# EAGLE library part LPC11C* (library lpc11xx)
The LPC11C12/C14 are an ARM Cortex-M0 based, low-cost 32-bit MCU family, designed for 8/16-bit microcontroller applications, offering performance, low power, simple instruction set and memory addressing together with reduced code size compared to existing 8/16-bit architectures. The LPC11C12/C14 operate at CPU frequencies of up to 50 MHz. The peripheral complement of the LPC11C12/C14 includes 16/32 kB of flash memory, 8 kB of data memory, one C_CAN controller, one Fast-mode Plus I2C-bus interface, one RS-485/EIA-485 UART, two SPI interfaces with SSP features, four general purpose counter/timers, a 10-bit ADC, and 40 general purpose I/O pins. On-chip C_CAN drivers and flash In-System Programming tools via C_CAN are included.
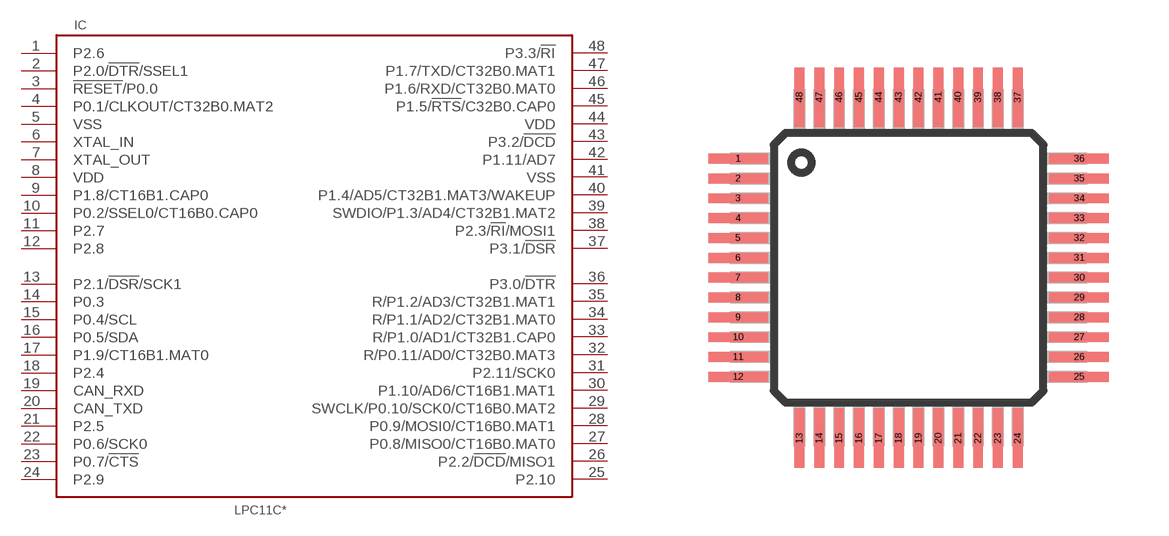
[diagram p0: symbol with the pads of LQFP48; footprint LQFP48]

Designator prefix IC

## LPC11C12FBD48, LPC11C14FBD48  [LQFP48]
1  P2.6
2  P2.0/!DTR!/SSEL1
3  !RESET!/P0.0
4  P0.1/CLKOUT/CT32B0.MAT2
5  VSS  pwr
6  XTAL_IN  in
7  XTAL_OUT  out
8  VDD  pwr
9  P1.8/CT16B1.CAP0
10  P0.2/SSEL0/CT16B0.CAP0
11  P2.7
12  P2.8
13  P2.1/!DSR!/SCK1
14  P0.3
15  P0.4/SCL
16  P0.5/SDA
17  P1.9/CT16B1.MAT0
18  P2.4
19  CAN_RXD  in
20  CAN_TXD  out
21  P2.5
22  P0.6/SCK0
23  P0.7/!CTS
24  P2.9
25  P2.10
26  P2.2/!DCD!/MISO1
27  P0.8/MISO0/CT16B0.MAT0
28  P0.9/MOSI0/CT16B0.MAT1
29  SWCLK/P0.10/SCK0/CT16B0.MAT2
30  P1.10/AD6/CT16B1.MAT1
31  P2.11/SCK0
32  R/P0.11/AD0/CT32B0.MAT3
33  R/P1.0/AD1/CT32B1.CAP0
34  R/P1.1/AD2/CT32B1.MAT0
35  R/P1.2/AD3/CT32B1.MAT1
36  P3.0/!DTR
37  P3.1/!DSR
38  P2.3/!RI!/MOSI1
39  SWDIO/P1.3/AD4/CT32B1.MAT2
40  P1.4/AD5/CT32B1.MAT3/WAKEUP
41  VSS  pwr
42  P1.11/AD7
43  P3.2/!DCD
44  VDD  pwr
45  P1.5/!RTS!/C32B0.CAP0
46  P1.6/RXD/CT32B0.MAT0
47  P1.7/TXD/CT32B0.MAT1
48  P3.3/!RI

## Footprint LQFP48 (pad centres in mm)
smd 1.5 x 0.25: 1 -4.3,2.75; 2 -4.3,2.25; 3 -4.3,1.75; 4 -4.3,1.25; 5 -4.3,0.75; 6 -4.3,0.25; 7 -4.3,-0.25; 8 -4.3,-0.75; 9 -4.3,-1.25; 10 -4.3,-1.75; 11 -4.3,-2.25; 12 -4.3,-2.75; 25 4.3,-2.75; 26 4.3,-2.25; 27 4.3,-1.75; 28 4.3,-1.25; 29 4.3,-0.75; 30 4.3,-0.25; 31 4.3,0.25; 32 4.3,0.75; 33 4.3,1.25; 34 4.3,1.75; 35 4.3,2.25; 36 4.3,2.75
smd 0.25 x 1.5: 13 -2.75,-4.3; 14 -2.25,-4.3; 15 -1.75,-4.3; 16 -1.25,-4.3; 17 -0.75,-4.3; 18 -0.25,-4.3; 19 0.25,-4.3; 20 0.75,-4.3; 21 1.25,-4.3; 22 1.75,-4.3; 23 2.25,-4.3; 24 2.75,-4.3; 37 2.75,4.3; 38 2.25,4.3; 39 1.75,4.3; 40 1.25,4.3; 41 0.75,4.3; 42 0.25,4.3; 43 -0.25,4.3; 44 -0.75,4.3; 45 -1.25,4.3; 46 -1.75,4.3; 47 -2.25,4.3; 48 -2.75,4.3